# Altium footprint library Connector_Samtec_MicroPower.PcbLib: 36 footprints (part 1 of 3)
Each footprint in its own frame and in the unit in brackets; x right, y up, seen from the top. Pads: shape width x height; smd on the part's side, far side on the other; paste and mask are expansions set on the pad; w line width, h text height; cw(c..) or ccw(c..) is an arc to the next point about the centre after c.
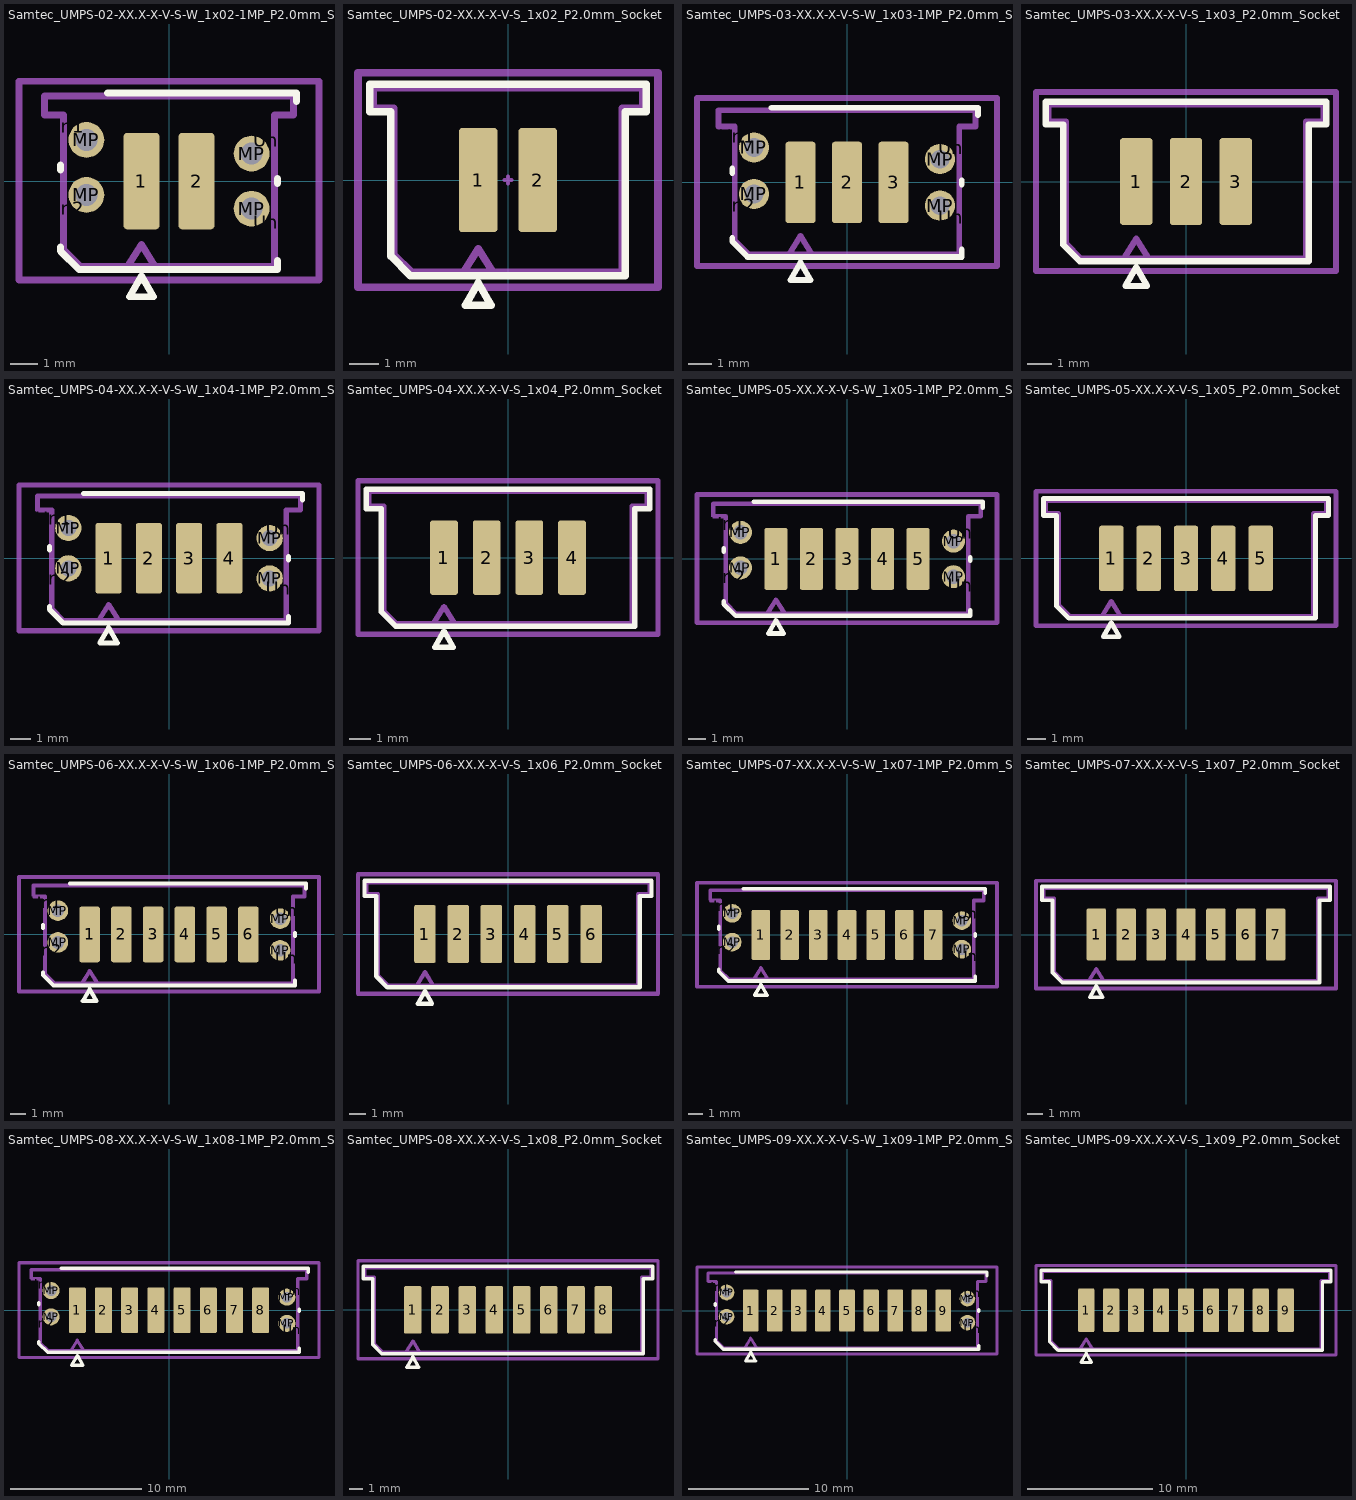
[diagram p0: the footprints below, top view; thin cyan lines are the x and y axes]

## Samtec_UMPS-02-XX.X-X-V-S-W_1x02-1MP_P2.0mm_Socket_WeldTab [mm]
pads (10):
  rrect19% 1.3x3.5 smd: 1(-1,0) 2(1,0)
  round 1.3 hole 0.8: MP(-3,-0.5) MP(-3,1.5) MP(3,-1) MP(3,1)
  rect 2.45x2.28 on Top Paste: Un1(-3.725,1.99) Un2(-3.725,-0.99) Un3(3.725,1.49) Un4(3.725,-1.49)
F.SilkS:
  lines w0.254: -3.935,-2.39 -3.935,-2.546 -3.271,-3.21 3.935,-3.21 3.935,-2.89 ; -3.935,0.41 -3.935,0.59 ; -2.24,3.21 4.635,3.21 4.635,2.89 ; 3.935,-0.09 3.935,0.09 ; -1.433,-4.2 -0.567,-4.2 -1,-3.45 -1.433,-4.2
Top Assembly:
  lines w0.254: -1.5,-3.1 -1,-2.3 -0.5,-3.1 ; -4.525,2.4 -3.825,2.4 -3.825,-2.5 -3.225,-3.1 3.825,-3.1 3.825,2.4 4.525,2.4 4.525,3.1 -4.525,3.1 -4.525,2.4
  text "'.Designator'" at -4.047,-0.84 h1
Top Courtyard:
  lines w0.254: -5.45,-3.6 5.45,-3.6 5.45,3.63 -5.45,3.63 -5.45,-3.6
Top Designator:
  text ".Designator" at -7.618,-0.793 h1.52

## Samtec_UMPS-02-XX.X-X-V-S_1x02_P2.0mm_Socket [mm]
pads (2):
  rrect19% 1.3x3.5 smd: 1(-1,0) 2(1,0)
F.SilkS:
  lines w0.254: -4.635,2.29 -3.935,2.29 -3.935,-2.546 -3.271,-3.21 3.935,-3.21 3.935,2.29 4.635,2.29 4.635,3.21 -4.635,3.21 -4.635,2.29 ; -1.433,-4.2 -0.567,-4.2 -1,-3.45 -1.433,-4.2
Top Component Center:
  lines w0.127: -0.127,0 0.127,0 ; 0,-0.127 0,0.127
Top Assembly:
  lines w0.254: -1.5,-3.1 -1,-2.3 -0.5,-3.1 ; -4.525,2.4 -3.825,2.4 -3.825,-2.5 -3.225,-3.1 3.825,-3.1 3.825,2.4 4.525,2.4 4.525,3.1 -4.525,3.1 -4.525,2.4
  text "'.Designator'" at -4.047,-0.84 h1
Top Courtyard:
  lines w0.254: -5.03,-3.6 5.03,-3.6 5.03,3.6 -5.03,3.6 -5.03,-3.6
Top Designator:
  text ".Designator" at -7.618,-0.808 h1.52

## Samtec_UMPS-03-XX.X-X-V-S-W_1x03-1MP_P2.0mm_Socket_WeldTab [mm]
pads (11):
  rrect19% 1.3x3.5 smd: 1(-2,0) 2(0,0) 3(2,0)
  round 1.3 hole 0.8: MP(-4,-0.5) MP(-4,1.5) MP(4,-1) MP(4,1)
  rect 2.45x2.28 on Top Paste: Un1(-4.725,1.99) Un2(-4.725,-0.99) Un3(4.725,1.49) Un4(4.725,-1.49)
F.SilkS:
  lines w0.254: -4.935,-2.39 -4.935,-2.546 -4.271,-3.21 4.935,-3.21 4.935,-2.89 ; -4.935,0.41 -4.935,0.59 ; -3.24,3.21 5.635,3.21 5.635,2.89 ; 4.935,-0.09 4.935,0.09 ; -2.433,-4.2 -1.567,-4.2 -2,-3.45 -2.433,-4.2
Top Assembly:
  lines w0.254: -2.5,-3.1 -2,-2.3 -1.5,-3.1 ; -5.525,2.4 -4.825,2.4 -4.825,-2.5 -4.225,-3.1 4.825,-3.1 4.825,2.4 5.525,2.4 5.525,3.1 -5.525,3.1 -5.525,2.4
  text "'.Designator'" at -4.047,-0.84 h1
Top Courtyard:
  lines w0.254: -6.45,-3.6 6.45,-3.6 6.45,3.63 -6.45,3.63 -6.45,-3.6
Top Designator:
  text ".Designator" at -7.618,-0.793 h1.52

## Samtec_UMPS-03-XX.X-X-V-S_1x03_P2.0mm_Socket [mm]
pads (3):
  rrect19% 1.3x3.5 smd: 1(-2,0) 2(0,0) 3(2,0)
F.SilkS:
  lines w0.254: -5.635,2.29 -4.935,2.29 -4.935,-2.546 -4.271,-3.21 4.935,-3.21 4.935,2.29 5.635,2.29 5.635,3.21 -5.635,3.21 -5.635,2.29 ; -2.433,-4.2 -1.567,-4.2 -2,-3.45 -2.433,-4.2
Top Assembly:
  lines w0.254: -2.5,-3.1 -2,-2.3 -1.5,-3.1 ; -5.525,2.4 -4.825,2.4 -4.825,-2.5 -4.225,-3.1 4.825,-3.1 4.825,2.4 5.525,2.4 5.525,3.1 -5.525,3.1 -5.525,2.4
  text "'.Designator'" at -4.047,-0.84 h1
Top Courtyard:
  lines w0.254: -6.03,-3.6 6.03,-3.6 6.03,3.6 -6.03,3.6 -6.03,-3.6
Top Designator:
  text ".Designator" at -7.618,-0.808 h1.52

## Samtec_UMPS-04-XX.X-X-V-S-W_1x04-1MP_P2.0mm_Socket_WeldTab [mm]
pads (12):
  rrect19% 1.3x3.5 smd: 1(-3,0) 2(-1,0) 3(1,0) 4(3,0)
  round 1.3 hole 0.8: MP(-5,-0.5) MP(-5,1.5) MP(5,-1) MP(5,1)
  rect 2.45x2.28 on Top Paste: Un1(-5.725,1.99) Un2(-5.725,-0.99) Un3(5.725,1.49) Un4(5.725,-1.49)
F.SilkS:
  lines w0.254: -5.935,-2.39 -5.935,-2.546 -5.271,-3.21 5.935,-3.21 5.935,-2.89 ; -5.935,0.41 -5.935,0.59 ; -4.24,3.21 6.635,3.21 6.635,2.89 ; 5.935,-0.09 5.935,0.09 ; -3.433,-4.2 -2.567,-4.2 -3,-3.45 -3.433,-4.2
Top Assembly:
  lines w0.254: -3.5,-3.1 -3,-2.3 -2.5,-3.1 ; -6.525,2.4 -5.825,2.4 -5.825,-2.5 -5.225,-3.1 5.825,-3.1 5.825,2.4 6.525,2.4 6.525,3.1 -6.525,3.1 -6.525,2.4
  text "'.Designator'" at -4.047,-0.84 h1
Top Courtyard:
  lines w0.254: -7.45,-3.6 7.45,-3.6 7.45,3.63 -7.45,3.63 -7.45,-3.6
Top Designator:
  text ".Designator" at -7.618,-0.793 h1.52

## Samtec_UMPS-04-XX.X-X-V-S_1x04_P2.0mm_Socket [mm]
pads (4):
  rrect19% 1.3x3.5 smd: 1(-3,0) 2(-1,0) 3(1,0) 4(3,0)
F.SilkS:
  lines w0.254: -6.635,2.29 -5.935,2.29 -5.935,-2.546 -5.271,-3.21 5.935,-3.21 5.935,2.29 6.635,2.29 6.635,3.21 -6.635,3.21 -6.635,2.29 ; -3.433,-4.2 -2.567,-4.2 -3,-3.45 -3.433,-4.2
Top Assembly:
  lines w0.254: -3.5,-3.1 -3,-2.3 -2.5,-3.1 ; -6.525,2.4 -5.825,2.4 -5.825,-2.5 -5.225,-3.1 5.825,-3.1 5.825,2.4 6.525,2.4 6.525,3.1 -6.525,3.1 -6.525,2.4
  text "'.Designator'" at -4.047,-0.84 h1
Top Courtyard:
  lines w0.254: -7.03,-3.6 7.03,-3.6 7.03,3.6 -7.03,3.6 -7.03,-3.6
Top Designator:
  text ".Designator" at -7.618,-0.808 h1.52

## Samtec_UMPS-05-XX.X-X-V-S-W_1x05-1MP_P2.0mm_Socket_WeldTab [mm]
pads (13):
  rrect19% 1.3x3.5 smd: 1(-4,0) 2(-2,0) 3(0,0) 4(2,0) 5(4,0)
  round 1.3 hole 0.8: MP(-6,-0.5) MP(-6,1.5) MP(6,-1) MP(6,1)
  rect 2.45x2.28 on Top Paste: Un1(-6.725,1.99) Un2(-6.725,-0.99) Un3(6.725,1.49) Un4(6.725,-1.49)
F.SilkS:
  lines w0.254: -6.935,-2.39 -6.935,-2.546 -6.271,-3.21 6.935,-3.21 6.935,-2.89 ; -6.935,0.41 -6.935,0.59 ; -5.24,3.21 7.635,3.21 7.635,2.89 ; 6.935,-0.09 6.935,0.09 ; -4.433,-4.2 -3.567,-4.2 -4,-3.45 -4.433,-4.2
Top Assembly:
  lines w0.254: -4.5,-3.1 -4,-2.3 -3.5,-3.1 ; -7.525,2.4 -6.825,2.4 -6.825,-2.5 -6.225,-3.1 6.825,-3.1 6.825,2.4 7.525,2.4 7.525,3.1 -7.525,3.1 -7.525,2.4
  text "'.Designator'" at -4.047,-0.84 h1
Top Courtyard:
  lines w0.254: -8.45,-3.6 8.45,-3.6 8.45,3.63 -8.45,3.63 -8.45,-3.6
Top Designator:
  text ".Designator" at -7.618,-0.793 h1.52

## Samtec_UMPS-05-XX.X-X-V-S_1x05_P2.0mm_Socket [mm]
pads (5):
  rrect19% 1.3x3.5 smd: 1(-4,0) 2(-2,0) 3(0,0) 4(2,0) 5(4,0)
F.SilkS:
  lines w0.254: -7.635,2.29 -6.935,2.29 -6.935,-2.546 -6.271,-3.21 6.935,-3.21 6.935,2.29 7.635,2.29 7.635,3.21 -7.635,3.21 -7.635,2.29 ; -4.433,-4.2 -3.567,-4.2 -4,-3.45 -4.433,-4.2
Top Assembly:
  lines w0.254: -4.5,-3.1 -4,-2.3 -3.5,-3.1 ; -7.525,2.4 -6.825,2.4 -6.825,-2.5 -6.225,-3.1 6.825,-3.1 6.825,2.4 7.525,2.4 7.525,3.1 -7.525,3.1 -7.525,2.4
  text "'.Designator'" at -4.047,-0.84 h1
Top Courtyard:
  lines w0.254: -8.03,-3.6 8.03,-3.6 8.03,3.6 -8.03,3.6 -8.03,-3.6
Top Designator:
  text ".Designator" at -7.618,-0.808 h1.52

## Samtec_UMPS-06-XX.X-X-V-S-W_1x06-1MP_P2.0mm_Socket_WeldTab [mm]
pads (14):
  rrect19% 1.3x3.5 smd: 1(-5,0) 2(-3,0) 3(-1,0) 4(1,0) 5(3,0) 6(5,0)
  round 1.3 hole 0.8: MP(-7,-0.5) MP(-7,1.5) MP(7,-1) MP(7,1)
  rect 2.45x2.28 on Top Paste: Un1(-7.725,1.99) Un2(-7.725,-0.99) Un3(7.725,1.49) Un4(7.725,-1.49)
F.SilkS:
  lines w0.254: -7.935,-2.39 -7.935,-2.546 -7.271,-3.21 7.935,-3.21 7.935,-2.89 ; -7.935,0.41 -7.935,0.59 ; -6.24,3.21 8.635,3.21 8.635,2.89 ; 7.935,-0.09 7.935,0.09 ; -5.433,-4.2 -4.567,-4.2 -5,-3.45 -5.433,-4.2
Top Assembly:
  lines w0.254: -5.5,-3.1 -5,-2.3 -4.5,-3.1 ; -8.525,2.4 -7.825,2.4 -7.825,-2.5 -7.225,-3.1 7.825,-3.1 7.825,2.4 8.525,2.4 8.525,3.1 -8.525,3.1 -8.525,2.4
  text "'.Designator'" at -4.047,-0.84 h1
Top Courtyard:
  lines w0.254: -9.45,-3.6 9.45,-3.6 9.45,3.63 -9.45,3.63 -9.45,-3.6
Top Designator:
  text ".Designator" at -7.618,-0.793 h1.52

## Samtec_UMPS-06-XX.X-X-V-S_1x06_P2.0mm_Socket [mm]
pads (6):
  rrect19% 1.3x3.5 smd: 1(-5,0) 2(-3,0) 3(-1,0) 4(1,0) 5(3,0) 6(5,0)
F.SilkS:
  lines w0.254: -8.635,2.29 -7.935,2.29 -7.935,-2.546 -7.271,-3.21 7.935,-3.21 7.935,2.29 8.635,2.29 8.635,3.21 -8.635,3.21 -8.635,2.29 ; -5.433,-4.2 -4.567,-4.2 -5,-3.45 -5.433,-4.2
Top Assembly:
  lines w0.254: -5.5,-3.1 -5,-2.3 -4.5,-3.1 ; -8.525,2.4 -7.825,2.4 -7.825,-2.5 -7.225,-3.1 7.825,-3.1 7.825,2.4 8.525,2.4 8.525,3.1 -8.525,3.1 -8.525,2.4
  text "'.Designator'" at -4.047,-0.84 h1
Top Courtyard:
  lines w0.254: -9.03,-3.6 9.03,-3.6 9.03,3.6 -9.03,3.6 -9.03,-3.6
Top Designator:
  text ".Designator" at -7.618,-0.808 h1.52

## Samtec_UMPS-07-XX.X-X-V-S-W_1x07-1MP_P2.0mm_Socket_WeldTab [mm]
pads (15):
  rrect19% 1.3x3.5 smd: 1(-6,0) 2(-4,0) 3(-2,0) 4(0,0) 5(2,0) 6(4,0) 7(6,0)
  round 1.3 hole 0.8: MP(-8,-0.5) MP(-8,1.5) MP(8,-1) MP(8,1)
  rect 2.45x2.28 on Top Paste: Un1(-8.725,1.99) Un2(-8.725,-0.99) Un3(8.725,1.49) Un4(8.725,-1.49)
F.SilkS:
  lines w0.254: -8.935,-2.39 -8.935,-2.546 -8.271,-3.21 8.935,-3.21 8.935,-2.89 ; -8.935,0.41 -8.935,0.59 ; -7.24,3.21 9.635,3.21 9.635,2.89 ; 8.935,-0.09 8.935,0.09 ; -6.433,-4.2 -5.567,-4.2 -6,-3.45 -6.433,-4.2
Top Assembly:
  lines w0.254: -6.5,-3.1 -6,-2.3 -5.5,-3.1 ; -9.525,2.4 -8.825,2.4 -8.825,-2.5 -8.225,-3.1 8.825,-3.1 8.825,2.4 9.525,2.4 9.525,3.1 -9.525,3.1 -9.525,2.4
  text "'.Designator'" at -4.047,-0.84 h1
Top Courtyard:
  lines w0.254: -10.45,-3.6 10.45,-3.6 10.45,3.63 -10.45,3.63 -10.45,-3.6
Top Designator:
  text ".Designator" at -7.618,-0.793 h1.52

## Samtec_UMPS-07-XX.X-X-V-S_1x07_P2.0mm_Socket [mm]
pads (7):
  rrect19% 1.3x3.5 smd: 1(-6,0) 2(-4,0) 3(-2,0) 4(0,0) 5(2,0) 6(4,0) 7(6,0)
F.SilkS:
  lines w0.254: -9.635,2.29 -8.935,2.29 -8.935,-2.546 -8.271,-3.21 8.935,-3.21 8.935,2.29 9.635,2.29 9.635,3.21 -9.635,3.21 -9.635,2.29 ; -6.433,-4.2 -5.567,-4.2 -6,-3.45 -6.433,-4.2
Top Assembly:
  lines w0.254: -6.5,-3.1 -6,-2.3 -5.5,-3.1 ; -9.525,2.4 -8.825,2.4 -8.825,-2.5 -8.225,-3.1 8.825,-3.1 8.825,2.4 9.525,2.4 9.525,3.1 -9.525,3.1 -9.525,2.4
  text "'.Designator'" at -4.047,-0.84 h1
Top Courtyard:
  lines w0.254: -10.03,-3.6 10.03,-3.6 10.03,3.6 -10.03,3.6 -10.03,-3.6
Top Designator:
  text ".Designator" at -7.618,-0.808 h1.52

## Samtec_UMPS-08-XX.X-X-V-S-W_1x08-1MP_P2.0mm_Socket_WeldTab [mm]
pads (16):
  rrect19% 1.3x3.5 smd: 1(-7,0) 2(-5,0) 3(-3,0) 4(-1,0) 5(1,0) 6(3,0) 7(5,0) 8(7,0)
  round 1.3 hole 0.8: MP(-9,-0.5) MP(-9,1.5) MP(9,-1) MP(9,1)
  rect 2.45x2.28 on Top Paste: Un1(-9.725,1.99) Un2(-9.725,-0.99) Un3(9.725,1.49) Un4(9.725,-1.49)
F.SilkS:
  lines w0.254: -9.935,-2.39 -9.935,-2.546 -9.271,-3.21 9.935,-3.21 9.935,-2.89 ; -9.935,0.41 -9.935,0.59 ; -8.24,3.21 10.635,3.21 10.635,2.89 ; 9.935,-0.09 9.935,0.09 ; -7.433,-4.2 -6.567,-4.2 -7,-3.45 -7.433,-4.2
Top Assembly:
  lines w0.254: -7.5,-3.1 -7,-2.3 -6.5,-3.1 ; -10.525,2.4 -9.825,2.4 -9.825,-2.5 -9.225,-3.1 9.825,-3.1 9.825,2.4 10.525,2.4 10.525,3.1 -10.525,3.1 -10.525,2.4
  text "'.Designator'" at -4.047,-0.84 h1
Top Courtyard:
  lines w0.254: -11.45,-3.6 11.45,-3.6 11.45,3.63 -11.45,3.63 -11.45,-3.6
Top Designator:
  text ".Designator" at -7.618,-0.793 h1.52

## Samtec_UMPS-08-XX.X-X-V-S_1x08_P2.0mm_Socket [mm]
pads (8):
  rrect19% 1.3x3.5 smd: 1(-7,0) 2(-5,0) 3(-3,0) 4(-1,0) 5(1,0) 6(3,0) 7(5,0) 8(7,0)
F.SilkS:
  lines w0.254: -10.635,2.29 -9.935,2.29 -9.935,-2.546 -9.271,-3.21 9.935,-3.21 9.935,2.29 10.635,2.29 10.635,3.21 -10.635,3.21 -10.635,2.29 ; -7.433,-4.2 -6.567,-4.2 -7,-3.45 -7.433,-4.2
Top Assembly:
  lines w0.254: -7.5,-3.1 -7,-2.3 -6.5,-3.1 ; -10.525,2.4 -9.825,2.4 -9.825,-2.5 -9.225,-3.1 9.825,-3.1 9.825,2.4 10.525,2.4 10.525,3.1 -10.525,3.1 -10.525,2.4
  text "'.Designator'" at -4.047,-0.84 h1
Top Courtyard:
  lines w0.254: -11.03,-3.6 11.03,-3.6 11.03,3.6 -11.03,3.6 -11.03,-3.6
Top Designator:
  text ".Designator" at -7.618,-0.808 h1.52

## Samtec_UMPS-09-XX.X-X-V-S-W_1x09-1MP_P2.0mm_Socket_WeldTab [mm]
pads (17):
  rrect19% 1.3x3.5 smd: 1(-8,0) 2(-6,0) 3(-4,0) 4(-2,0) 5(0,0) 6(2,0) 7(4,0) 8(6,0) 9(8,0)
  round 1.3 hole 0.8: MP(-10,-0.5) MP(-10,1.5) MP(10,-1) MP(10,1)
  rect 2.45x2.28 on Top Paste: Un1(-10.725,1.99) Un2(-10.725,-0.99) Un3(10.725,1.49) Un4(10.725,-1.49)
F.SilkS:
  lines w0.254: -10.935,-2.39 -10.935,-2.546 -10.271,-3.21 10.935,-3.21 10.935,-2.89 ; -10.935,0.41 -10.935,0.59 ; -9.24,3.21 11.635,3.21 11.635,2.89 ; 10.935,-0.09 10.935,0.09 ; -8.433,-4.2 -7.567,-4.2 -8,-3.45 -8.433,-4.2
Top Assembly:
  lines w0.254: -8.5,-3.1 -8,-2.3 -7.5,-3.1 ; -11.525,2.4 -10.825,2.4 -10.825,-2.5 -10.225,-3.1 10.825,-3.1 10.825,2.4 11.525,2.4 11.525,3.1 -11.525,3.1 -11.525,2.4
  text "'.Designator'" at -4.047,-0.84 h1
Top Courtyard:
  lines w0.254: -12.45,-3.6 12.45,-3.6 12.45,3.63 -12.45,3.63 -12.45,-3.6
Top Designator:
  text ".Designator" at -7.618,-0.793 h1.52

## Samtec_UMPS-09-XX.X-X-V-S_1x09_P2.0mm_Socket [mm]
pads (9):
  rrect19% 1.3x3.5 smd: 1(-8,0) 2(-6,0) 3(-4,0) 4(-2,0) 5(0,0) 6(2,0) 7(4,0) 8(6,0) 9(8,0)
F.SilkS:
  lines w0.254: -11.635,2.29 -10.935,2.29 -10.935,-2.546 -10.271,-3.21 10.935,-3.21 10.935,2.29 11.635,2.29 11.635,3.21 -11.635,3.21 -11.635,2.29 ; -8.433,-4.2 -7.567,-4.2 -8,-3.45 -8.433,-4.2
Top Assembly:
  lines w0.254: -8.5,-3.1 -8,-2.3 -7.5,-3.1 ; -11.525,2.4 -10.825,2.4 -10.825,-2.5 -10.225,-3.1 10.825,-3.1 10.825,2.4 11.525,2.4 11.525,3.1 -11.525,3.1 -11.525,2.4
  text "'.Designator'" at -4.047,-0.84 h1
Top Courtyard:
  lines w0.254: -12.03,-3.6 12.03,-3.6 12.03,3.6 -12.03,3.6 -12.03,-3.6
Top Designator:
  text ".Designator" at -7.618,-0.808 h1.52